# EAGLE library part LT1129IS8-3.3 (library LT1129IS8-3.3)
Check availability <https://pricing.snapeda.com/parts/LT1129IS8-3.3/Analog%20Devices%2C%20Inc./view-part?ref=eda>
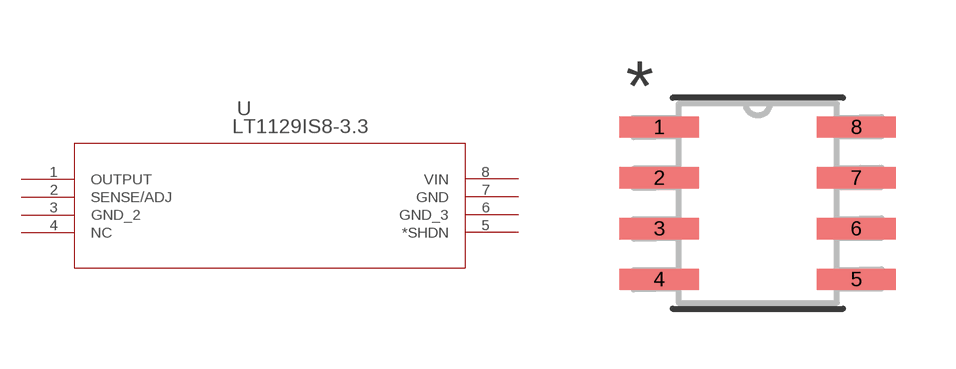
[diagram p0: symbol with the pads of SO-8_S; footprint SO-8_S]

Designator prefix U

## LT1129IS8-3.3 (Availability: In Stock; Description: LDO Regulator Pos 3.3V 0.7A 8-Pin SOIC N; MF: Analog Devices, Inc.; MP: LT1129IS8-3.3; Package: None; Price: None; Purchase-URL: https://pricing.snapeda.com/search/part/LT1129IS8-3.3/?ref=eda)  [SO-8_S]
1  OUTPUT  out
2  SENSE/ADJ  pas
3  GND_2  pwr
4  NC  nc
5  *SHDN  pas
6  GND_3  pwr
7  GND  pwr
8  VIN  in

## Footprint SO-8_S (pad centres in mm)
smd 1.981 x 0.533: 1 -2.464,1.905; 2 -2.464,0.635; 3 -2.464,-0.635; 4 -2.464,-1.905; 5 2.464,-1.905; 6 2.464,-0.635; 7 2.464,0.635; 8 2.464,1.905